# Altium schematic symbol library 60V_Ind.SchLib: 4 symbols
Pins are listed as number, name and electrical type; pins without a type are passive.

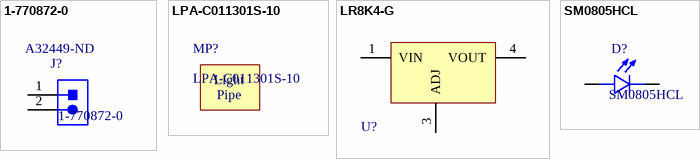
[diagram p0: symbols 1-770872-0 to SM0805HCL]

## 1-770872-0
designator J?  Supplier Part Number 1: A32449-ND
Connector Header Through Hole 2 position 0.163" (4.14mm); Vendor: TE Connectivity; Built_By: EMA_UL_Team; Manufacturer_Part_Number: 1-770872-0; Copyright: Copyright (C) 2018 Accelerated Designs. All rights reserved; RefDes: RefDes; Type: DEV; Value: Value; Supplier 1: Digi-Key
footprint CON2_1X2_P163_VM
pins: 1, 2

## LPA-C011301S-10
designator MP?
Light Pipe Single Clear Rigid Round with Flat Top, 3mm Board Mount, Press Fit; Supplier 1: Digi-Key; Supplier Part Number 1: 67-1833-ND
footprint LPA-C011301S-10
text: Light; Pipe

## LR8K4-G
designator U?  (value not drawn)
Linear Voltage Regulator IC Positive Adjustable 1 Output  10mA TO-252, (D-Pak); Supplier 1: Digi-Key; Supplier Part Number 1: LR8K4-GCT-ND
footprint Microchip_C04-189_MFG
pins: 1 VIN (power), 3 ADJ, 4 VOUT (power)

## SM0805HCL
designator D?
Red 631nm LED Indication - Discrete 1.9V 0805 (2012 Metric); Supplier 1: Digi-Key; Supplier Part Number 1: 492-2281-1-ND
footprint LEDC2012X135N_SM0805UGC(Primary)
pins: A, C